# EAGLE library part CC1110 (library riley)
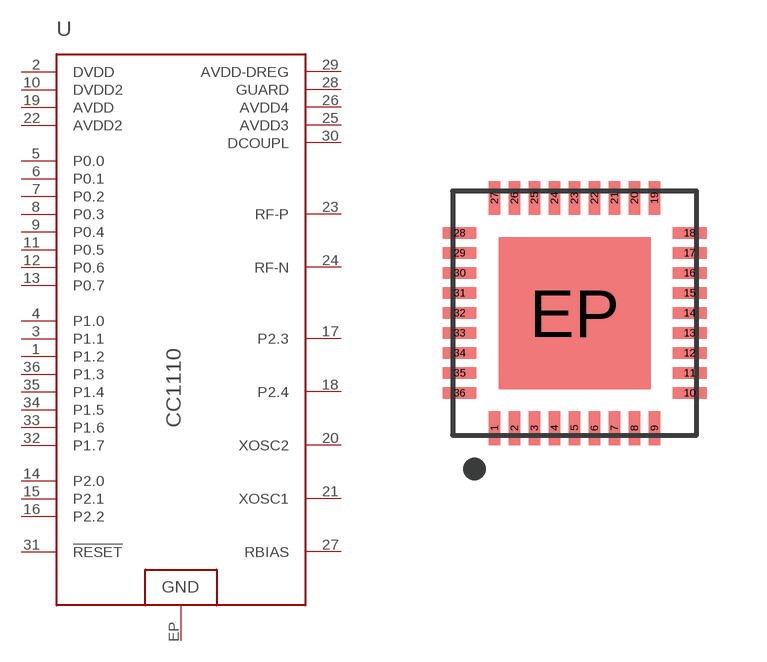
[diagram p2: symbol with the pads of QFN36; footprint QFN36]

Designator prefix -

## CC1110  [QFN36]
1  P1.2
2  DVDD
3  P1.1
4  P1.0
5  P0.0
6  P0.1
7  P0.2
8  P0.3
9  P0.4
10  DVDD2
11  P0.5
12  P0.6
13  P0.7
14  P2.0
15  P2.1
16  P2.2
17  P2.3
18  P2.4
19  AVDD
20  XOSC2
21  XOSC1
22  AVDD2
23  RF-P
24  RF-N
25  AVDD3
26  AVDD4
27  RBIAS
28  GUARD
29  AVDD-DREG
30  DCOUPL
31  !RESET
32  P1.7
33  P1.6
34  P1.5
35  P1.4
36  P1.3
EP  GND2

## Footprint QFN36 (pad centres in mm)
smd 0.28 x 0.85: 1 -2,-2.875; 2 -1.5,-2.875; 3 -1,-2.875; 4 -0.5,-2.875; 5 0,-2.875; 6 0.5,-2.875; 7 1,-2.875; 8 1.5,-2.875; 9 2,-2.875; 19 2,2.875; 20 1.5,2.875; 21 1,2.875; 22 0.5,2.875; 23 0,2.875; 24 -0.5,2.875; 25 -1,2.875; 26 -1.5,2.875; 27 -2,2.875
smd 0.85 x 0.28: 10 2.875,-2; 11 2.875,-1.5; 12 2.875,-1; 13 2.875,-0.5; 14 2.875,0; 15 2.875,0.5; 16 2.875,1; 17 2.875,1.5; 18 2.875,2; 28 -2.875,2; 29 -2.875,1.5; 30 -2.875,1; 31 -2.875,0.5; 32 -2.875,0; 33 -2.875,-0.5; 34 -2.875,-1; 35 -2.875,-1.5; 36 -2.875,-2
smd 3.8 x 3.8: EP 0,0